# EAGLE library part NC7WV17P6X (library Fairchild_By_element14_Batch_1)
Dual Buffer
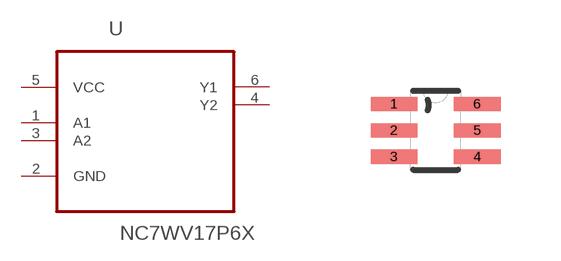
[diagram p364: symbol with the pads of SOT65P210X110-6N; footprint SOT65P210X110-6N]

Designator prefix U

## NC7WV17P6X (MPN: NC7WV17P6X; OC_FARNELL: 1311672; OC_NEWARK: 84H6513; PACKAGE: SC-70-6; SUPPLIER: Fairchild Semiconductor)  [SOT65P210X110-6N]
1  A1  in
2  GND  pas
3  A2  in
4  Y2  out
5  VCC  pwr
6  Y1  out

## Footprint SOT65P210X110-6N (pad centres in mm)
smd 1.168 x 0.356: 1 -1.041,0.66; 2 -1.041,0; 3 -1.041,-0.66; 4 1.041,-0.66; 5 1.041,0; 6 1.041,0.66